# Altium footprint library voice_launch.PcbLib: 27 footprints (part 2 of 2)
Each footprint in its own frame and in the unit in brackets; x right, y up, seen from the top. Pads: shape width x height; smd on the part's side, far side on the other; paste and mask are expansions set on the pad; w line width, h text height; cw(c..) or ccw(c..) is an arc to the next point about the centre after c.
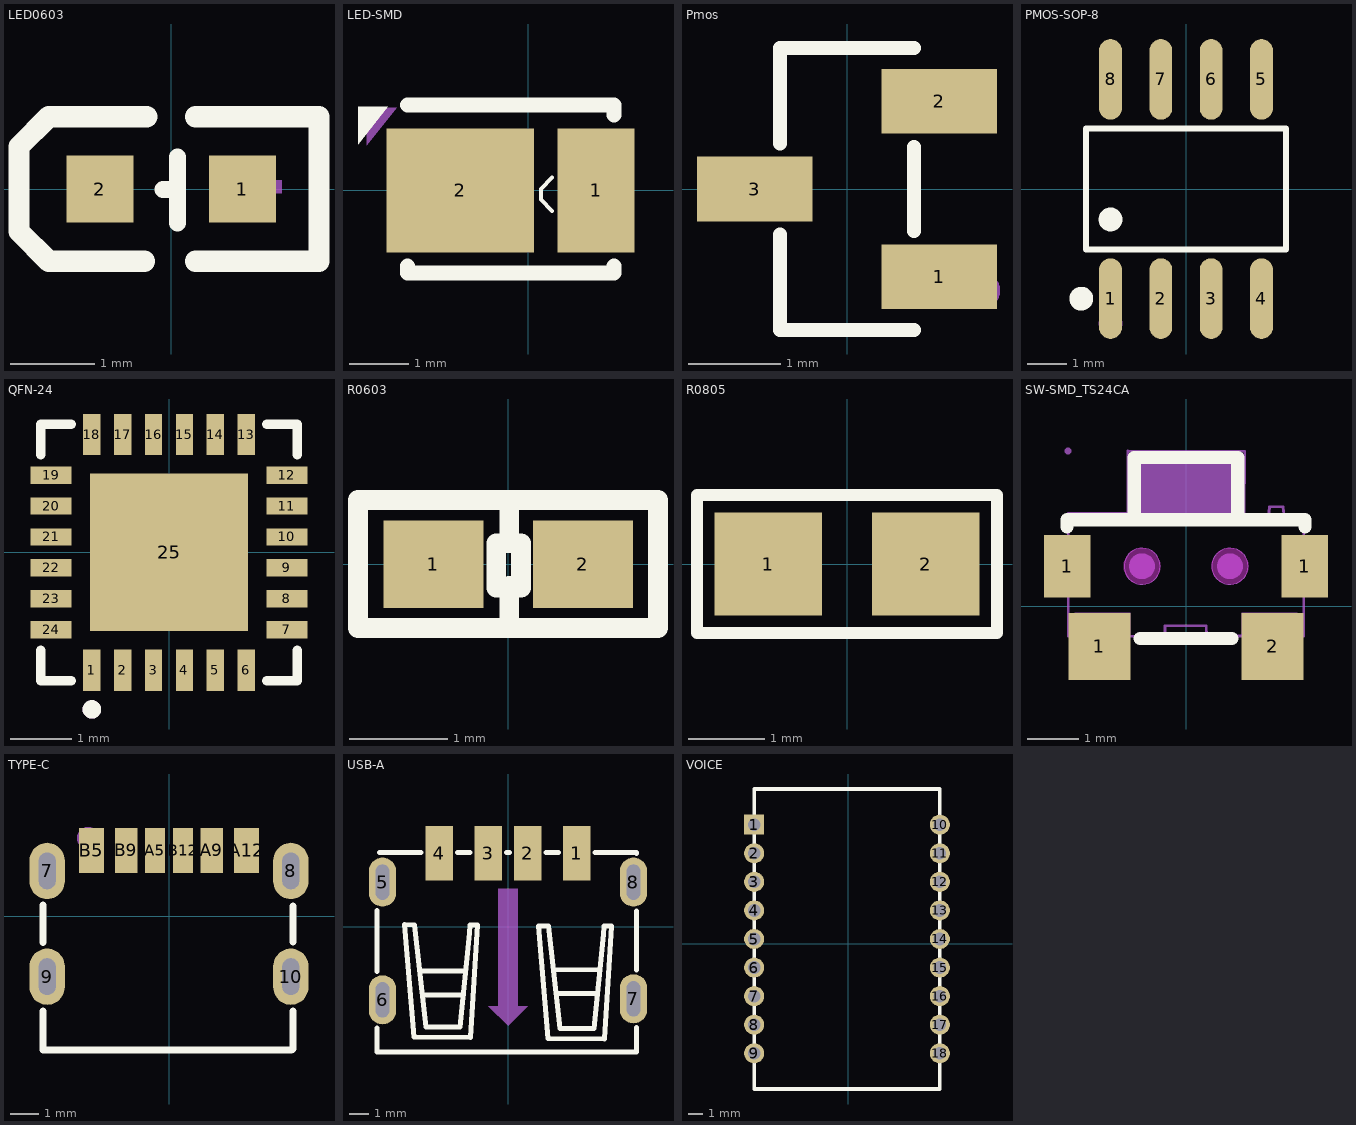
[diagram p1: the footprints below, top view; thin cyan lines are the x and y axes]

## LED0603 [mm] "LED0603"
pads (2):
  rect 0.8x0.8 smd: 1(0.851,0) 2(-0.851,0)
Top Overlay:
  lines w0.203: -0.099,-0.008 0.076,-0.008 ; 0.076,-0.406 0.076,0.381
  lines w0.254: -0.318,-0.864 -1.46,-0.864 -1.816,-0.508 -1.816,0.508 -1.46,0.864 -0.292,0.864 ; 0.292,-0.864 1.765,-0.864 1.765,0.864 0.292,0.864
Mechanical 15:
  region: 0.66,0.102 1.321,0.102 1.321,-0.051 0.66,-0.051
  region: 0.936,-0.275 0.936,0.385 1.088,0.385 1.088,-0.275
  region: -1.193,0.05 -0.533,0.05 -0.533,-0.103 -1.193,-0.103
3D body "LED.STEP": height 0.6, standoff 0, extent -0.802,-0.392 0.818,0.408

## LED-SMD [mm] "LED照明灯"
pads (2):
  rect 1.3x2.1 smd: 1(1.15,0)
  rect 2.5x2.1 smd: 2(-1.15,0)
Top Overlay:
  region: -2.886,1.418 -2.886,0.783 -2.378,1.418
  lines w0.07: 0.404,-0.345 0.215,-0.155 0.215,0.028 0.404,0.218
  lines w0.254: -2.05,-1.281 -2.05,-1.4 1.45,-1.4 1.45,-1.281 ; -2.05,1.451 1.45,1.451 ; 1.45,1.281 1.45,1.4
Mechanical 15:
  region: 0.818,0.125 1.58,0.125 1.58,-0.129 0.818,-0.129
  region: 1.072,0.76 1.326,0.76 1.326,-0.764 1.072,-0.764
  region: -1.468,0.252 -0.579,0.252 -0.579,-0.002 -1.468,-0.002
  region: -2.739,1.404 -2.739,0.769 -2.231,1.404
3D body "LED_SMD.STEP": height 0.7, standoff 0, extent -2.161,-1.274 1.338,1.525

## Pmos [mm] "C393520"
pads (3):
  rect 1.25x0.7 smd: 1(1,-0.95) 2(1,0.95) 3(-1,0)
Top Overlay:
  lines w0.152: -0.726,-0.495 -0.726,-1.526 0.726,-1.526 ; -0.726,0.495 -0.726,1.526 0.726,1.526 ; 0.726,-0.455 0.726,0.455
Mechanical 15:
  circle w0.2: c1.46,-1.1 r0.1

## PMOS-SOP-8 [mm]
pads (8):
  oval 0.574x2.036 smd: 1(-1.905,-2.768) 2(-0.635,-2.768) 3(0.635,-2.768) 4(1.905,-2.768) 5(1.905,2.768) 6(0.635,2.768) 7(-0.635,2.768) 8(-1.905,2.768)
Top Overlay:
  circle w0.3: c-2.644,-2.768 r0.15
  circle w0.3: c-1.905,-0.769 r0.15
  lines w0.152: -2.526,-1.521 2.526,-1.521 2.526,1.521 -2.526,1.521 -2.526,-1.521
Mechanical 15:
  circle w0.3: c-1.905,-3.398 r0.15
3D body "TS34119CS RLG.STEP": height 2.1, standoff 0, extent -2.425,-2.873 2.425,3.127

## QFN-24 [mm]
pads (25):
  rect 0.28x0.665 smd: 1(-1.25,-1.907) 2(-0.75,-1.907) 3(-0.25,-1.907) 4(0.25,-1.907) 5(0.75,-1.907) 6(1.25,-1.907) 13(1.25,1.907) 14(0.75,1.907) 15(0.25,1.907) 16(-0.25,1.907) 17(-0.75,1.907) 18(-1.25,1.907)
  rect 0.665x0.28 smd: 7(1.907,-1.25) 8(1.907,-0.75) 9(1.907,-0.25) 10(1.907,0.25) 11(1.907,0.75) 12(1.907,1.25) 19(-1.907,1.25) 20(-1.907,0.75) 21(-1.907,0.25) 22(-1.907,-0.25) 23(-1.907,-0.75) 24(-1.907,-1.25)
  rect 2.55x2.55 smd: 25(0,0)
Top Overlay:
  circle w0.15: c-1.25,-2.54 r0.075
  lines w0.152: -2.076,-1.58 -2.076,-2.076 -1.58,-2.076 ; -2.076,1.58 -2.076,2.076 -1.58,2.076 ; 1.58,-2.076 2.076,-2.076 2.076,-1.58 ; 1.58,2.076 2.076,2.076 2.076,1.58
Mechanical 15:
  circle w0.15: c-1.25,-2.54 r0.075
3D body "ip5219.STEP": height 0.92, standoff 0, extent -2.01,-2.01 2.01,2.011

## R0603 [mil]
height 170.08
pads (2):
  rect 40x35 smd: 1(-29.92,0) 2(29.92,0)
Top Overlay:
  lines w7.87: 0.39,-21.65 0.39,-8.66 ; 0.39,9.45 0.39,21.65 ; -60.07,-25.59 -60.07,25.59 59.93,25.59 59.93,-25.59 -60.07,-25.59 ; -4.72,-9.45 5.12,-9.45 5.12,8.27 -4.72,8.27 -4.72,-9.45
3D body "Res-0603.step": height 16.54, standoff 0, extent -31.5,-15 31.5,16.49

## R0805 [mm]
pads (2):
  rect 1.41x1.35 smd: 1(-1.03,0) 2(1.03,0)
Top Overlay:
  lines w0.152: -1.964,-0.904 -1.964,0.904 -0.401,0.904 0.401,0.904 1.964,0.904 1.964,-0.904 0.401,-0.904 -0.401,-0.904 -1.964,-0.904
Top Paste:
  region: 0.475,-0.62 0.475,-0.2 0.92,-0.2 0.92,0.25 0.48,0.25 0.475,0.66 0.525,0.71 1.675,0.71 1.725,0.66 1.725,-0.62 1.675,-0.67 0.525,-0.67
  region: -1.675,-0.62 -1.675,0.66 -1.625,0.71 -0.475,0.71 -0.425,0.66 -0.42,0.25 -0.87,0.25 -0.87,-0.2 -0.43,-0.2 -0.425,-0.62 -0.475,-0.67 -1.625,-0.67
3D body "res0805.STEP": height 0.61, standoff 0, extent -1,-0.65 1,0.65

## SW-SMD_TS24CA [mm] "C393942"
pads (4):
  rect 0.9x1.2 smd mask+0.051: 1(-2.3,0.775) 1(2.3,0.775)
  rect 1.2x1.3 smd mask+0.051: 1(-1.675,-0.775) 2(1.675,-0.775)
Top Overlay:
  lines w0.254: -2.3,1.537 -2.3,1.675 2.3,1.675 2.3,1.537 ; -1,1.675 -1,2.875 1,2.875 1,1.675 ; -0.889,-0.625 0.889,-0.625
Keep-Out Layer:
  board cut-out: -0.5,0.775 -0.5,0.844 -0.553,0.973 -0.652,1.072 -0.78,1.125 -0.92,1.125 -1.048,1.072 -1.147,0.973 -1.2,0.844 -1.2,0.775 -1.2,0.705 -1.147,0.577 -1.048,0.478 -0.92,0.425 -0.78,0.425 -0.652,0.478 -0.553,0.577 -0.5,0.705 -0.5,0.775
  board cut-out: 1.2,0.775 1.2,0.844 1.147,0.973 1.048,1.072 0.92,1.125 0.78,1.125 0.652,1.072 0.553,0.973 0.5,0.844 0.5,0.775 0.5,0.705 0.553,0.577 0.652,0.478 0.78,0.425 0.92,0.425 1.048,0.478 1.147,0.577 1.2,0.705 1.2,0.775
Mechanical 1:
  circle w0.005: c-0.85,0.775 r0.35
  circle w0.005: c0.85,0.775 r0.35
Mechanical 6:
  circle w0.25: c0.85,0.775 r0.125
  circle w0.25: c-0.85,0.775 r0.125
  region: -1.016,1.778 -1.016,2.921 1.016,2.921 1.016,1.778
Mechanical 15:
  region: -2.22,3.002 -2.22,3.027 -2.255,3.062 -2.305,3.062 -2.34,3.027 -2.34,3.002 -2.34,2.977 -2.305,2.942 -2.255,2.942 -2.22,2.977 -2.22,3.002
  region: -2.175,0.725 -2.274,0.725 -2.275,0.725 -2.275,1.374 -2.273,1.376 -2.176,1.376 -2.175,1.376 -2.175,0.726 -2.18,0.726 -2.193,0.725
  region: -2.155,-0.125 -2.155,-0.575 -1.905,-0.575 -1.905,-0.675 -1.505,-0.675 -1.505,-0.674 -1.505,-0.575 -1.076,-0.575 -1.075,-0.575 -1.075,-0.125 -1.076,-0.125 -2.154,-0.125 -2.154,-0.132 -2.154,-0.126
  region: 2.146,-0.124 2.146,-0.573 1.896,-0.573 1.896,-0.673 1.497,-0.673 1.497,-0.574 1.497,-0.573 1.075,-0.575 1.075,-0.576 1.075,-0.462 1.075,-0.349 1.075,-0.127 1.076,-0.125 2.146,-0.123 2.146,-0.131 2.146,-0.124
  region: 2.165,0.725 2.275,0.725 2.275,0.726 2.275,1.375 2.166,1.375 2.165,1.374 2.165,0.726 2.166,0.726
  lines w0.051: -0.406,-0.574 -1.506,-0.575 -1.506,-0.674 -1.904,-0.674 -1.905,-0.575 -2.275,-0.575 -2.28,1.801 -1.128,1.804 -1.124,3.002 1.138,3.002 1.127,1.727 1.595,1.725 1.615,1.925 1.876,1.926 1.897,1.727 2.275,1.724 2.274,-0.578 2.145,-0.575 1.895,-0.575 1.894,-0.675 1.495,-0.675 1.495,-0.575 0.395,-0.575 0.395,-0.375 -0.406,-0.374 -0.406,-0.574 ; -0.406,-0.574 -0.406,-0.574
3D body "butter.STEP": height 1.82, standoff -0.4, extent -2.274,-0.674 2.275,2.925

## TYPE-C [mm] "TYPE-C"
pads (10):
  oval 1.25x2 hole 0.6 slot 1.3 at 90 deg: 7(-4.32,1.611) 8(4.32,1.611) 9(-4.32,-2.139) 10(4.32,-2.139)
  rect 0.7x1.6 smd: A5(-0.5,2.339) B12(0.5,2.339)
  rect 0.8x1.6 smd: A9(1.52,2.339) B9(-1.52,2.339)
  rect 0.9x1.6 smd: A12(2.75,2.339) B5(-2.75,2.339)
Top Overlay:
  lines w0.254: -4.467,-3.357 -4.467,-4.733 -4.455,-4.746 4.346,-4.746 4.397,-4.695 4.397,-3.367 ; -4.467,-0.921 -4.467,0.393 ; 4.397,-0.911 4.397,0.372
Mechanical 15:
  circle w0.4: c-2.869,2.773 r0.2
3D body "TYPE_C.STEP": height 3.16, standoff -1, extent -4.47,-4.626 4.47,2.173

## USB-A [mm] "USB-A"
pads (8):
  rect 1.4x2.8 smd: 1(3.5,3.738) 2(1.001,3.738) 3(-1.001,3.738) 4(-3.5,3.738)
  oval 1.4x2.5 hole 0.7 slot 1.8 at 90 deg: 5(-6.4,2.263) 6(-6.4,-3.737) 7(6.4,-3.687) 8(6.4,2.263)
Top Overlay:
  lines w0.254: -6.68,-5.176 -6.68,-6.412 6.55,-6.412 6.55,-5.156 ; -6.68,-2.3 -6.68,0.826 ; -6.55,3.768 -4.431,3.768 ; -4.449,-2.277 -2.188,-2.277 ; -4.309,-3.487 -2.279,-3.487 ; -2.569,3.768 -1.932,3.768 ; -0.07,3.768 0.07,3.768 ; 1.932,3.768 2.569,3.768 ; 2.401,-2.206 4.661,-2.206 ; 2.541,-3.416 4.571,-3.416 ; 4.431,3.768 6.55,3.768 6.55,3.733 ; 6.55,-2.218 6.55,0.795 ; -5.286,0.09 -4.791,-5.645 -1.908,-5.656 -1.558,0.087 -1.938,0.087 -1.968,-0.343 -2.442,-5.121 -4.192,-5.132 -4.267,-4.454 -4.777,0.086 -5.286,0.09 ; 1.553,0.02 2.048,-5.715 4.931,-5.726 5.281,0.017 4.901,0.017 4.871,-0.413 4.397,-5.191 2.647,-5.202 2.572,-4.524 2.062,0.017 1.553,0.02
Top Paste:
  region: 4.2,2.338 2.8,2.338 2.8,5.138 4.2,5.138
  region: 1.701,2.338 0.301,2.338 0.301,5.138 1.701,5.138
  region: -0.301,2.338 -1.701,2.338 -1.701,5.138 -0.301,5.138
  region: -2.8,2.338 -4.2,2.338 -4.2,5.138 -2.8,5.138
  region: 7.101,1.714 7.101,1.622 7.053,1.444 6.961,1.285 6.831,1.154 6.671,1.062 6.493,1.014 6.309,1.014 6.131,1.062 5.971,1.154 5.841,1.285 5.749,1.444 5.701,1.622 5.701,1.714 5.701,2.814 5.701,2.906 5.749,3.085 5.841,3.244 5.971,3.374 6.131,3.467 6.309,3.514 6.493,3.514 6.671,3.467 6.831,3.374 6.961,3.244 7.053,3.085 7.101,2.906 7.101,2.814
  region: -7.101,2.814 -7.101,2.906 -7.053,3.085 -6.961,3.244 -6.831,3.374 -6.671,3.467 -6.493,3.514 -6.309,3.514 -6.131,3.467 -5.971,3.374 -5.841,3.244 -5.748,3.085 -5.701,2.906 -5.701,2.814 -5.701,1.714 -5.701,1.622 -5.748,1.444 -5.841,1.285 -5.971,1.154 -6.131,1.062 -6.309,1.014 -6.493,1.014 -6.671,1.062 -6.831,1.154 -6.961,1.285 -7.053,1.444 -7.101,1.622 -7.101,1.714
  region: 7.101,-4.237 7.101,-4.329 7.053,-4.507 6.961,-4.667 6.831,-4.797 6.671,-4.889 6.493,-4.937 6.309,-4.937 6.131,-4.889 5.971,-4.797 5.841,-4.667 5.749,-4.507 5.701,-4.329 5.701,-4.237 5.701,-3.137 5.701,-3.045 5.749,-2.867 5.841,-2.707 5.971,-2.577 6.131,-2.485 6.309,-2.437 6.493,-2.437 6.671,-2.485 6.831,-2.577 6.961,-2.707 7.053,-2.867 7.101,-3.045 7.101,-3.137
  region: -7.101,-3.188 -7.101,-3.096 -7.053,-2.917 -6.961,-2.758 -6.831,-2.628 -6.671,-2.535 -6.493,-2.488 -6.309,-2.488 -6.131,-2.535 -5.971,-2.628 -5.841,-2.758 -5.748,-2.917 -5.701,-3.096 -5.701,-3.188 -5.701,-4.288 -5.701,-4.38 -5.748,-4.558 -5.841,-4.718 -5.971,-4.848 -6.131,-4.94 -6.309,-4.988 -6.493,-4.988 -6.671,-4.94 -6.831,-4.848 -6.961,-4.718 -7.053,-4.558 -7.101,-4.38 -7.101,-4.288
Mechanical 15:
  region: 1,-4.062 0,-5.062 -1,-4.062
  region: 0.5,-4.062 -0.5,-4.062 -0.5,1.938 0.5,1.938
3D body "3D_PCB1_2022-02-24.STEP": height 6.2, standoff -2.5, extent -6.495,-6.454 6.604,4.445

## VOICE [mm] "语音模块"
pads (18):
  rect 1.4x1.4 hole 0.889: 1(-6.604,8.34)
  round 1.4 hole 0.889: 2(-6.604,6.34) 3(-6.604,4.34) 4(-6.604,2.34) 5(-6.604,0.34) 6(-6.604,-1.66) 7(-6.604,-3.66) 8(-6.604,-5.66) 9(-6.604,-7.66) 10(6.396,8.34) 11(6.396,6.34) 12(6.396,4.34) 13(6.396,2.34) 14(6.396,0.34) 15(6.396,-1.66) 16(6.396,-3.66) 17(6.396,-5.66) 18(6.396,-7.66)
Top Overlay:
  lines w0.254: -6.604,-10.16 -6.604,10.84 6.396,10.84 6.396,-10.16 -6.604,-10.16